# EAGLE library part PICAXE-40X2 (library PICAXEv2)
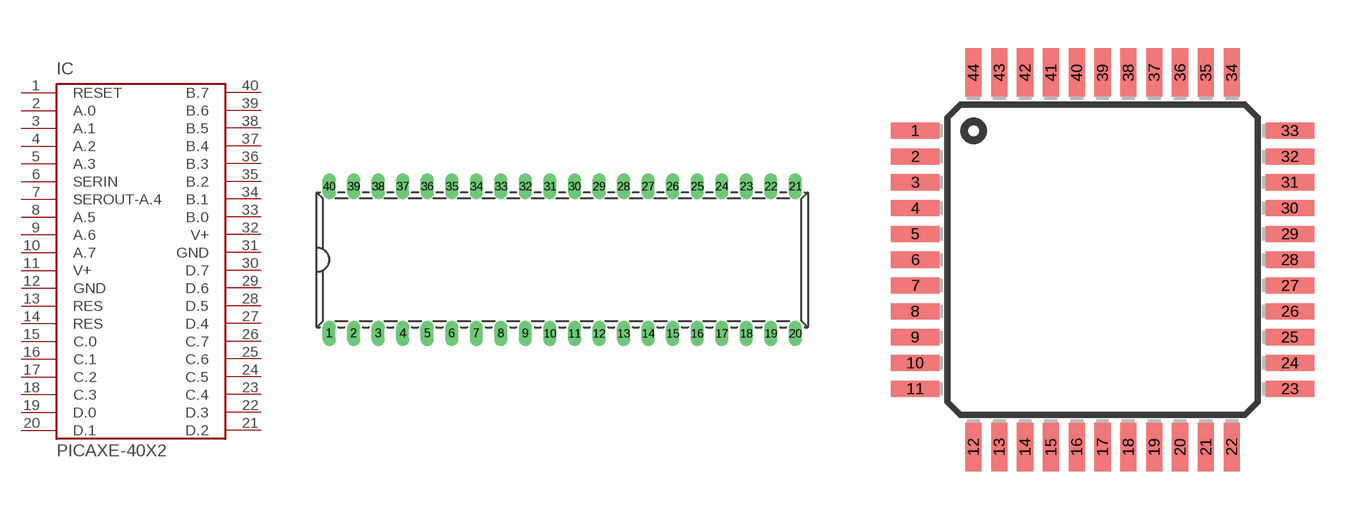
[diagram p5: symbol with the pads of DIL40; footprints DIL40, TQFP44]

Designator prefix IC

## PICAXE-40X2-DIL  [DIL40]
1  RESET  pwr
2  A.0
3  A.1
4  A.2
5  A.3
6  SERIN  in
7  SEROUT-A.4  out
8  A.5
9  A.6
10  A.7
11  V+
12  GND
13  RES
14  RES
15  C.0
16  C.1
17  C.2
18  C.3
19  D.0
20  D.1
21  D.2
22  D.3
23  C.4
24  C.5
25  C.6
26  C.7
27  D.4
28  D.5
29  D.6
30  D.7
31  GND  pwr
32  V+  pwr
33  B.0
34  B.1
35  B.2
36  B.3
37  B.4
38  B.5
39  B.6
40  B.7

## PICAXE-40X2-SMD  [TQFP44]
1  C.7
2  D.4
3  D.5
4  D.6
5  D.7
6  GND
7  V+
8  B.0
9  B.1
10  B.2
11  B.3
14  B.4
15  B.5
16  B.6
17  B.7
18  RESET  pwr
19  A.0
20  A.1
21  A.2
22  A.3
23  SERIN  in
24  SEROUT-A.4  out
25  A.5
26  A.6
27  A.7
28  V+  pwr
29  GND  pwr
30  RES
31  RES
32  C.0
35  C.1
36  C.2
37  C.3
38  D.0
39  D.1
40  D.2
41  D.3
42  C.4
43  C.5
44  C.6

## Footprint DIL40 (pad centres in mm)
drill 0.813 long: 1 -24.13,-7.62; 2 -21.59,-7.62; 3 -19.05,-7.62; 4 -16.51,-7.62; 5 -13.97,-7.62; 6 -11.43,-7.62; 7 -8.89,-7.62; 8 -6.35,-7.62; 9 -3.81,-7.62; 10 -1.27,-7.62; 11 1.27,-7.62; 12 3.81,-7.62; 13 6.35,-7.62; 14 8.89,-7.62; 15 11.43,-7.62; 16 13.97,-7.62; 17 16.51,-7.62; 18 19.05,-7.62; 19 21.59,-7.62; 20 24.13,-7.62; 21 24.13,7.62; 22 21.59,7.62; 23 19.05,7.62; 24 16.51,7.62; 25 13.97,7.62; 26 11.43,7.62; 27 8.89,7.62; 28 6.35,7.62; 29 3.81,7.62; 30 1.27,7.62; 31 -1.27,7.62; 32 -3.81,7.62; 33 -6.35,7.62; 34 -8.89,7.62; 35 -11.43,7.62; 36 -13.97,7.62; 37 -16.51,7.62; 38 -19.05,7.62; 39 -21.59,7.62; 40 -24.13,7.62

## Footprint TQFP44 (pad centres in mm)
smd 1.5 x 0.5: 1 -5.8,4; 2 -5.8,3.2; 3 -5.8,2.4; 4 -5.8,1.6; 5 -5.8,0.8; 6 -5.8,0; 7 -5.8,-0.8; 8 -5.8,-1.6; 9 -5.8,-2.4; 10 -5.8,-3.2; 11 -5.8,-4; 23 5.8,-4; 24 5.8,-3.2; 25 5.8,-2.4; 26 5.8,-1.6; 27 5.8,-0.8; 28 5.8,0; 29 5.8,0.8; 30 5.8,1.6; 31 5.8,2.4; 32 5.8,3.2; 33 5.8,4
smd 0.5 x 1.5: 12 -4,-5.8; 13 -3.2,-5.8; 14 -2.4,-5.8; 15 -1.6,-5.8; 16 -0.8,-5.8; 17 0,-5.8; 18 0.8,-5.8; 19 1.6,-5.8; 20 2.4,-5.8; 21 3.2,-5.8; 22 4,-5.8; 34 4,5.8; 35 3.2,5.8; 36 2.4,5.8; 37 1.6,5.8; 38 0.8,5.8; 39 0,5.8; 40 -0.8,5.8; 41 -1.6,5.8; 42 -2.4,5.8; 43 -3.2,5.8; 44 -4,5.8